# Altium footprint library MemorySockets.PcbLib: 2 footprints
Each footprint in its own frame and in the unit in brackets; x right, y up, seen from the top. Pads: shape width x height; smd on the part's side, far side on the other; paste and mask are expansions set on the pad; w line width, h text height; cw(c..) or ccw(c..) is an arc to the next point about the centre after c.
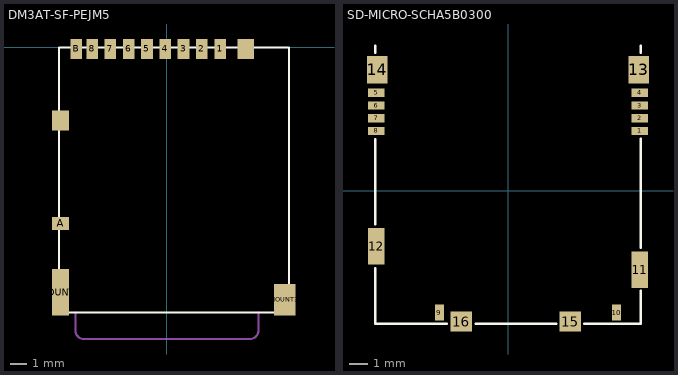
[diagram p0: the footprints below, top view; thin cyan lines are the x and y axes]

## DM3AT-SF-PEJM5 [mm]
pads (14):
  rect 0.7x1.2 smd: 1(3.2,-0.1) 2(2.1,-0.1) 3(1,-0.1) 4(-0.1,-0.1) 5(-1.2,-0.1) 6(-2.3,-0.1) 7(-3.4,-0.1) 8(-4.5,-0.1) B(-5.45,-0.1)
  rect 1x0.8 smd: A(-6.4,-10.6)
  rect 1x1.2 smd: MOUNT0(4.75,-0.1) MOUNT1(-6.4,-4.4)
  rect 1x2.8 smd: MOUNT2(-6.4,-14.75)
  rect 1.3x1.9 smd: MOUNT3(7.1,-15.2)
Top Overlay:
  lines w0.127: -6.5,-15.95 -6.5,0 7.35,0 7.35,-15.95 -6.5,-15.95
Mechanical 16:
  lines w0.127: -5.5,-15.95 -5.5,-17.05 ccw(c-5,-17.05) -5,-17.55 5,-17.55 ccw(c5,-17.05) 5.5,-17.05 5.5,-15.95
3D body "User Library-DM3AT-SF-PEJM5.STEP": height 1.68, standoff 0, extent -6.484,-16.15 7.366,0

## SD-MICRO-SCHA5B0300 [mil] "SD-MICRO-SCHA5B0300"
pads (16):
  rect 36x18 smd mask+2: 1(285.72,130) 2(285.72,157.56) 3(285.72,185.12) 4(285.72,212.68) 5(-285.72,212.68) 6(-285.72,185.12) 7(-285.72,157.56) 8(-285.72,130)
  rect 20x35 smd mask+2: 9(-148.62,-263.28) 10(235.24,-263.28)
  rect 35x79 smd mask+2: 11(285.43,-170.59) 12(-285.43,-119.41)
  rect 44x60 smd mask+2: 13(283.32,262.48) 14(-283.32,262.48)
  rect 47x43 smd mask+2: 15(134.84,-282.91) 16(-101.37,-282.91)
Top Overlay:
  lines w5: -287.5,-167 -287.5,-287.5 -132.5,-287.5 ; -287.5,-72.5 -287.5,112.05 ; -287.5,299.5 -287.5,315 ; -70,-287.5 104.5,-287.5 ; 165.5,-287.5 287.5,-287.5 287.5,-215.5 ; 287.5,-123 287.5,113 ; 287.5,299.5 287.5,315
3D body "SCHA5B0200.STEP": height 59.45, standoff -0.01, extent -295.55,-293.12 295,317.12